# Altium integrated library AMCC PowerPC 405.IntLib: 46 symbols (part 11 of 12)
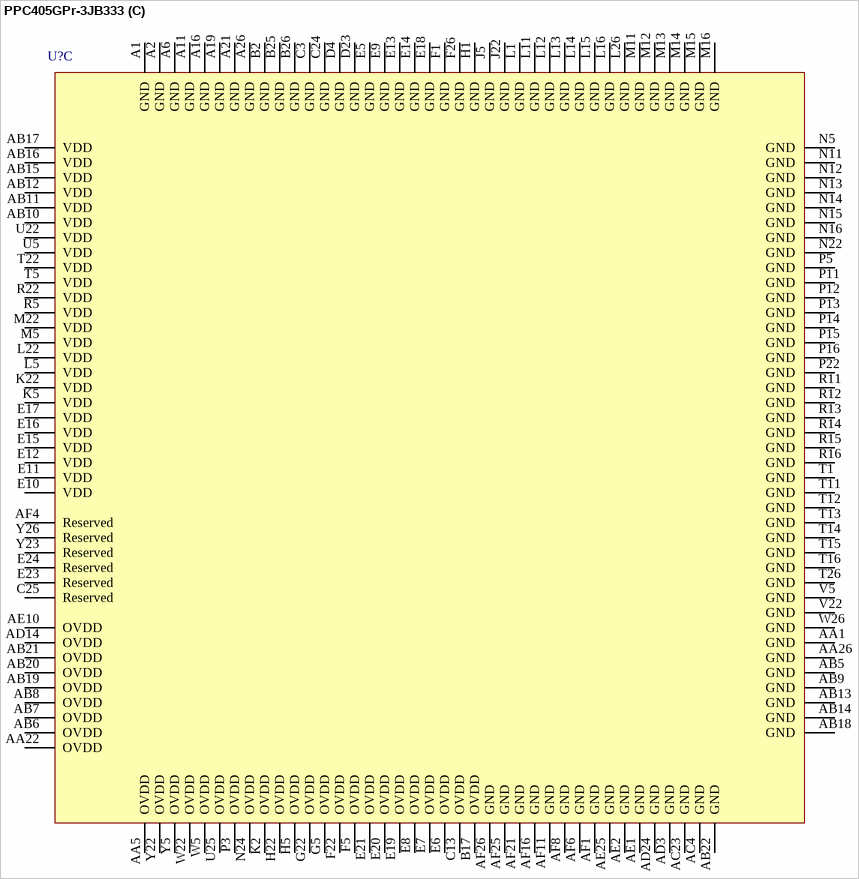
[diagram p128: symbol PPC405GPr-3JB333]

## PPC405GPr-3JB333
designator U?
PowerPC 405GPr Embedded Processor, 333MHz, 35mm, 456 Ball E-PBGA, Pb-Free; Published: 6-Oct-2005; LatestRevisionDate: 13-Apr-2006; LatestRevisionNote: IPC-7351 Footprint Added.; DatasheetVersion: rev 2.02, Aug-2005; PackageVersion: May-2006; PackageReference: E-PBGA456_75; Publisher: Altium Limited; PackageDescription: 456-Ball Enhanced Plastic Ball Grid Array (E-PBGA); ComponentLink1Description: Manufacturer Link; ComponentLink1URL: http://www.amcc.com/; ComponentLink2Description: Datasheet; ComponentLink2URL: https://www.amcc.com/MyAMCC/retrieveDocument/PowerPC/405GP_GPR/PPC405GPR_DS2005_v2_02.pdf
footprint E-PBGA456_75 (BGA, 456-Leads, Body 35x35mm, Pitch 1.27mm)
3D model PPC405GPr-E-PBGA456_75 (456-Ball Enhanced Plastic Ball Grid Array (E-PBGA))
part A pins: A3 PerAddr1 (io), A4 ~{PerCS}3[GPIO12] (io), A5 PerAddr8 (io), A7 DMAReq3 (in), A8 PerAddr15 (io), A9 ~{PerCS}6[GPIO15] (io), A10 PerAddr19 (io), A12 PerAddr25 (io), A13 PerAddr26 (io), A14 PerAddr28 (io), A15 PerAddr29 (io), A25 SysClk (in), AA3 DQM3 (out), AA24 IRQ6[GPIO23] (io), AB23 ~{CA}S (out), AB24 BA0 (out), AB25 ClkEn0 (out), AB26 ~{Hal}t (in), AC6 DQM2 (out), AC10 DQM1 (out), AC12 DQM0 (out), AC14 ~{BankSel}3 (out), AC15 DQMCB (out), AC16 ~{WE} (out), AC22 TMS (in), AC24 BA1 (out), AC25 ClkEn1 (out), AD6 IICSCL (io), AD12 ECC7 (io), AD13 ECC3 (io), AD17 ~{BankSel}0 (out), AD22 TCK (in), AD23 TDO (out), AD25 SysErr (out), AE7 IICSDA (io), AE13 ECC6 (io), AE14 ECC0 (io), AE15 ~{BankSel}2 (out), AE24 TDI (in), AE26 ~{TRS}T (in), AF12 ECC5 (io), AF13 ECC4 (io), AF14 ECC2 (io), AF15 ECC1 (io), AF17 ~{BankSel}1 (out), AF24 ~{RA}S (out), B1 PerErr (in), B3 ~{PerCS}0 (out), B4 PerAddr2 (io), B5 PerAddr3 (io), B6 PerAddr5 (io), B7 PerAddr9 (io), B8 PerAddr12 (io), B9 ~{PerCS}4[GPIO13] (io), B10 ~{PerCS}5[GPIO14] (io), B11 ~{PerCS}7[GPIO16] (io), B12 PerAddr21 (io), B13 PerAddr24 (io), B14 DMAAck2 (out), B15 DMAAck1 (out), C1 PerR/~{W} (io), C2 ~{PerO}E (out), C4 ~{PerCS}1[GPIO10] (io), C5 ~{PerCS}2[GPIO11] (io), C6 PerAddr6 (io), C7 PerAddr10 (io), C8 PerAddr13 (io), C9 PerAddr16 (io), C10 PerAddr18 (io), C11 DMAReq2 (in), C12 DMAAck3 (out), C14 PerAddr27 (io), C15 PerAddr30 (io), C16 DMAReq0 (in), D1 ~{PerWBE}3 (io), D2 ~{PerWBE}0 (io), D3 PerPar0 (io), D5 PerAddr0 (io), D6 PerAddr4 (io), D7 PerAddr7 (io), D8 PerAddr11 (io), D9 PerAddr14 (io), D10 PerAddr17 (io), D11 PerAddr20 (io), D12 PerAddr23 (io), D13 PerAddr22 (io), D14 DMAReq1 (in), D15 PerAddr31 (io), D16 DMAAck0 (out), D22 ~{SysRese}t (io), D24 TmrClk (in), D25 AVDD (in), D26 ~{TestE}n (in), E1 PerPar3 (io), E2 ~{PerWBE}1 (io), E3 PerReady (in), E4 PerClk (out), E22 AGND (in), F2 ~{PerBLas}t (io), F3 EOT0/TC0 (io), F4 ~{PerWBE}2 (io), G1 PerData29 (io), G2 EOT1/TC1 (io), G3 PerPar2 (io), G4 PerPar1 (io), H2 PerData30 (io), H3 PerData28 (io), H4 PerData31 (io), J1 PerData23 (io), J2 PerData26 (io), J3 PerData25 (io), J4 PerData27 (io), K1 PerData20 (io), K3 PerData22 (io), K4 PerData24 (io), L2 PerData21 (io), L3 PerData18 (io), L4 PerData19 (io), M1 PerData12 (io), M2 PerData17 (io), M3 PerData14 (io), M4 PerData15 (io), N1 PerData11 (io), N2 PerData13 (io), N3 PerData10 (io), N4 PerData16 (io), P1 PerData9 (io), P2 PerData7 (io), P4 PerData5 (io), R1 PerData8 (io), R2 PerData4 (io), R3 BusReq (out), R4 PerData6 (io), T2 HoldPri (in), T3 ~{ExtRese}t (out), T4 PerData3 (io), U1 PerData2 (io), U2 HoldAck (out), U3 PerData1 (io), U4 PerData0 (io), V1 HoldReq (in), V2 EOT2/TC2 (io), V23 IRQ1[GPIO18] (io), V25 IRQ0[GPIO17] (io), W24 IRQ2[GPIO19] (io), W25 IRQ3[GPIO20] (io), Y1 EOT3/TC3 (io), Y3 ~{ExtAc}k (out), Y4 ~{ExtRe}q (in), Y24 IRQ4[GPIO21] (io), Y25 IRQ5[GPIO22] (io)
part B pins: A17 PCIAD0 (io), A18 PCIAD3 (io), A20 PCIAD7 (io), A22 GPIO3[TS1O] (io), A23 PCIAD9 (io), A24 ~{PCIReq}3 (in), AA2 MemData23 (io), AA4 MemData22 (io), AA23 MemClkOut1 (out), AA25 PHYCol (in), AB1 MemData24 (io), AB2 MemData21 (io), AB3 GPIO9[TrcClk] (io), AB4 ~{UART0}_~{CT}S (in), AC1 UART1_Rx (in), AC2 UART1_Tx (out), AC3 ~{UART1}_~{CT}S/~{UART1}_~{DS}R (in), AC5 MemData19 (io), AC7 GPIO8[TS6] (io), AC8 MemData12 (io), AC9 GPIO5[TS3] (io), AC11 MemData3 (io), AC13 MemData0 (io), AC17 MemAddr12 (out), AC18 MemAddr9 (out), AC19 MemAddr6 (out), AC20 PHYRxD2 (in), AC21 MemAddr1 (out), AC26 MemClkOut0 (out), AD1 MemData20 (io), AD2 ~{UART1}_~{DT}R/~{UART1}_~{RT}S (out), AD4 MemData18 (io), AD5 MemData17 (io), AD7 MemData13 (io), AD8 MemData10 (io), AD9 MemData8 (io), AD10 MemData6 (io), AD11 MemData2 (io), AD15 ~{UART0}_~{R}I (in), AD16 ~{UART0}_~{RT}S (out), AD18 MemAddr11 (out), AD19 MemAddr8 (out), AD20 PHYRxD3 (in), AD21 MemAddr3 (out), AD26 EMCMDIO[PHYMDIO] (io), AE3 ~{UART0}_~{DS}R (in), AE4 MemData16 (io), AE5 MemData15 (io), AE6 MemData14 (io), AE8 GPIO6[TS4] (io), AE9 MemData9 (io), AE11 MemData5 (io), AE12 MemData1 (io), AE16 UART0_Rx (in), AE17 UARTSerClk (in), AE18 ~{UART0}_~{DC}D (in), AE19 MemAddr7 (out), AE20 MemAddr5 (out), AE21 MemAddr2 (out), AE22 MemAddr0 (out), AE23 PHYRxD0 (in), AF2 ~{UART0}_~{DT}R (out), AF3 UART0_Tx (out), AF5 GPIO7[TS5] (io), AF7 MemData11 (io), AF9 MemData7 (io), AF10 MemData4 (io), AF18 GPIO4[TS2O] (io), AF19 MemAddr10 (out), AF20 PHYRxClk (in), AF22 MemAddr4 (out), AF23 PHYRxD1 (in), B16 PCIAD1 (io), B18 PCIAD6 (io), B19 ~{PCIReq}2 (in), B20 PCIClk (in), B21 PCIAD8 (io), B22 PCIAD11 (io), B23 PCIAD12 (io), B24 ~{PCIRese}t (out), C17 PCIAD2 (io), C18 PCIAD5 (io), C19 ~{PCIReq0}[~{Gn}t] (in), C20 GPIO2[TS2E] (io), C21 ~{PCIReq}1 (in), C22 PCIAD13 (io), C23 ~{PCIIN}T[~{PerWE}] (out), C26 PCIAD14 (io), D17 PCIAD4 (io), D18 GPIO1[TS1E] (io), D19 PCIC0[~{BE0}] (io), D20 GPIO24 (io), D21 PCIAD10 (io), E25 PHYTxClk (in), E26 PCIParity (io), F23 ~{PCIGnt}2 (out), F24 PCIC1[~{BE1}] (io), F25 PCIAD15 (io), G23 ~{PCIReq}4 (in), G24 ~{PCISEr}r (io), G25 ~{PCIPEr}r (io), G26 ~{PCITRD}Y (io), H23 ~{PCISto}p (io), H24 EMCMDClk (out), H25 ~{PCIDevSe}l (io), H26 ~{PCIGnt}3 (out), J23 ~{PCIIRD}Y (io), J24 ~{PCIFram}e (io), J25 ~{PCIReq}5 (in), J26 EMCTxD0 (out), K23 EMCTxEn (out), K24 PCIC2[~{BE2}] (io), K25 EMCTxErr (out), K26 PCIAD16 (io), L23 PCIAD17 (io), L24 EMCTxD2 (out), L25 EMCTxD1 (out), M23 PCIAD19 (io), M24 ~{PCIGnt}5 (out), M25 PCIAD18 (io), M26 PCIAD21 (io), N23 ~{PCIGnt}4 (out), N25 PCIAD20 (io), N26 PCIAD22 (io), P23 PCIAD26 (io), P24 PCIAD23 (io), P25 EMCTxD3 (out), P26 PCIIDSel (in), R23 PCIAD25 (io), R24 PCIAD24 (io), R25 PCIAD27 (io), R26 PCIC3[~{BE3}] (io), T23 ~{PCIGnt}1 (out), T24 PCIAD28 (io), T25 PCIAD30 (io), U23 ~{PCIGnt}0[~{Re}q] (out), U24 PHYRxErr (in), U26 PCIAD29 (io), V3 MemData31 (io), V4 MemData29 (io), V24 PHYRxDV (in), V26 PCIAD31 (io), W1 MemData30 (io), W2 MemData27 (io), W3 MemData28 (io), W4 MemData26 (io), W23 PHYCrS (in), Y2 MemData25 (io)
part C pins: A1 GND (power), A2 GND (power), A6 GND (power), A11 GND (power), A16 GND (power), A19 GND (power), A21 GND (power), A26 GND (power), AA1 GND (power), AA5 OVDD (power), AA22 OVDD (power), AA26 GND (power), AB5 GND (power), AB6 OVDD (power), AB7 OVDD (power), AB8 OVDD (power), AB9 GND (power), AB10 VDD (power), AB11 VDD (power), AB12 VDD (power), AB13 GND (power), AB14 GND (power), AB15 VDD (power), AB16 VDD (power), AB17 VDD (power), AB18 GND (power), AB19 OVDD (power), AB20 OVDD (power), AB21 OVDD (power), AB22 GND (power), AC4 GND (power), AC23 GND (power), AD3 GND (power), AD14 OVDD (power), AD24 GND (power), AE1 GND (power), AE2 GND (power), AE10 OVDD (power), AE25 GND (power), AF1 GND (power), AF4 Reserved, AF6 GND (power), AF8 GND (power), AF11 GND (power), AF16 GND (power), AF21 GND (power), AF25 GND (power), AF26 GND (power), B2 GND (power), B17 OVDD (power), B25 GND (power), B26 GND (power), C3 GND (power), C13 OVDD (power), C24 GND (power), C25 Reserved, D4 GND (power), D23 GND (power), E5 GND (power), E6 OVDD (power), E7 OVDD (power), E8 OVDD (power), E9 GND (power), E10 VDD (power), E11 VDD (power), E12 VDD (power), E13 GND (power), E14 GND (power), E15 VDD (power), E16 VDD (power), E17 VDD (power), E18 GND (power), E19 OVDD (power), E20 OVDD (power), E21 OVDD (power), E23 Reserved, E24 Reserved, F1 GND (power), F5 OVDD (power), F22 OVDD (power), F26 GND (power), G5 OVDD (power), G22 OVDD (power), H1 GND (power), H5 OVDD (power), H22 OVDD (power), J5 GND (power), J22 GND (power), K2 OVDD (power), K5 VDD (power), K22 VDD (power), L1 GND (power), L5 VDD (power), L11 GND (power) "Thermal Balls", L12 GND (power) "Thermal Balls", L13 GND (power) "Thermal Balls", L14 GND (power) "Thermal Balls", L15 GND (power) "Thermal Balls", L16 GND (power) "Thermal Balls", L22 VDD (power), L26 GND (power), M5 VDD (power), M11 GND (power) "Thermal Balls", M12 GND (power) "Thermal Balls", M13 GND (power) "Thermal Balls", M14 GND (power) "Thermal Balls", M15 GND (power) "Thermal Balls", M16 GND (power) "Thermal Balls", M22 VDD (power), N5 GND (power), N11 GND (power) "Thermal Balls", N12 GND (power) "Thermal Balls", N13 GND (power) "Thermal Balls", N14 GND (power) "Thermal Balls", N15 GND (power) "Thermal Balls", N16 GND (power) "Thermal Balls", N22 GND (power), N24 OVDD (power), P3 OVDD (power), P5 GND (power), P11 GND (power) "Thermal Balls", P12 GND (power) "Thermal Balls", P13 GND (power) "Thermal Balls", P14 GND (power) "Thermal Balls", P15 GND (power) "Thermal Balls", P16 GND (power) "Thermal Balls", P22 GND (power), R5 VDD (power), R11 GND (power) "Thermal Balls", R12 GND (power) "Thermal Balls", R13 GND (power) "Thermal Balls", R14 GND (power) "Thermal Balls", R15 GND (power) "Thermal Balls", R16 GND (power) "Thermal Balls", R22 VDD (power), T1 GND (power), T5 VDD (power), T11 GND (power) "Thermal Balls", T12 GND (power) "Thermal Balls", T13 GND (power) "Thermal Balls", T14 GND (power) "Thermal Balls", T15 GND (power) "Thermal Balls", T16 GND (power) "Thermal Balls", T22 VDD (power), T26 GND (power), U5 VDD (power), U22 VDD (power), U25 OVDD (power), V5 GND (power), V22 GND (power), W5 OVDD (power), W22 OVDD (power), W26 GND (power), Y5 OVDD (power), Y22 OVDD (power), Y23 Reserved, Y26 Reserved

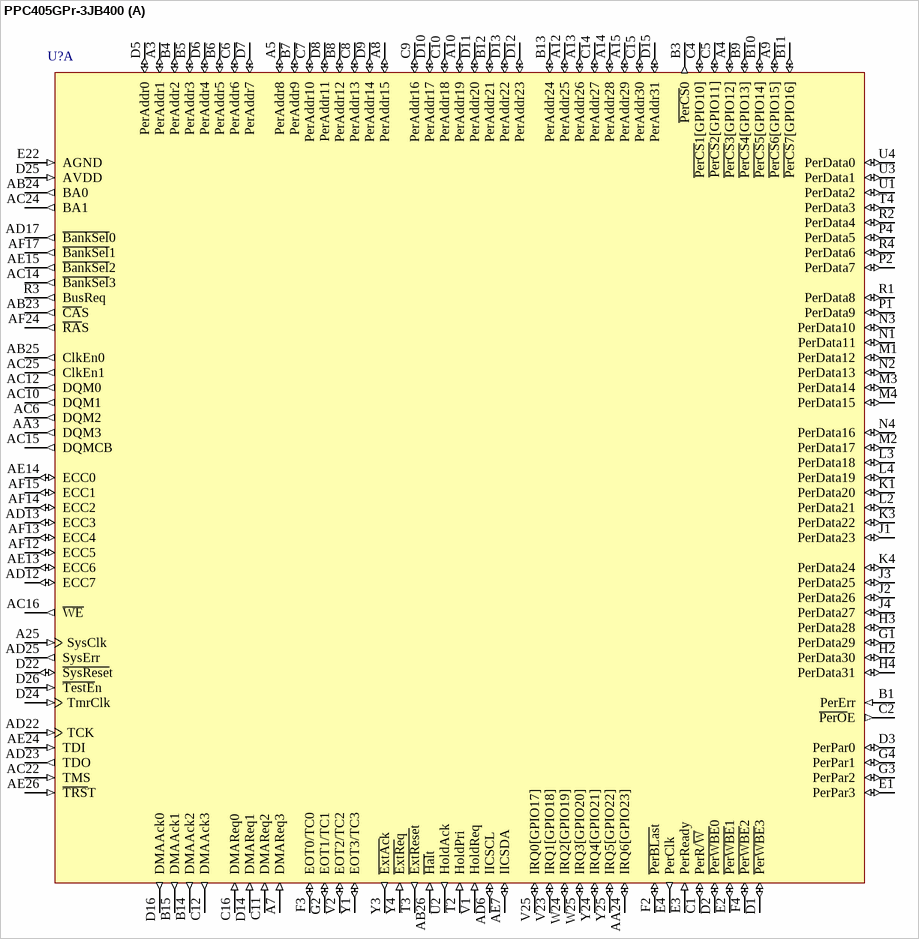
[diagram p107: symbol PPC405GPr-3JB400]

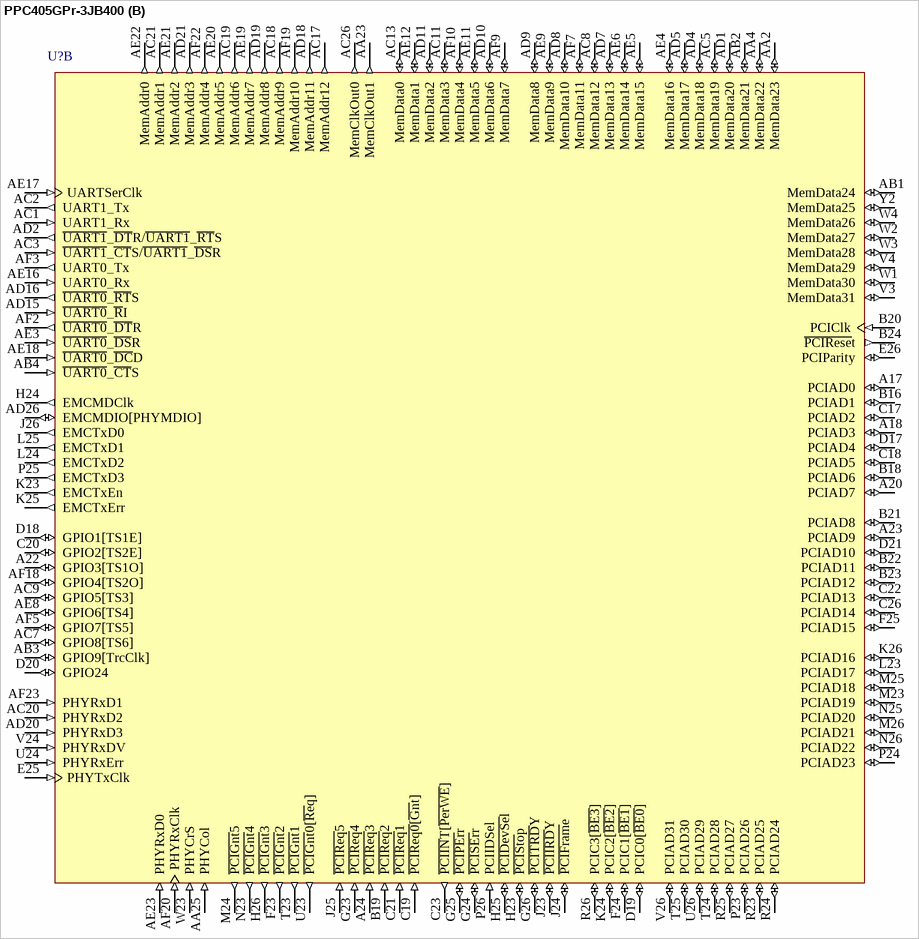
[diagram p108: symbol PPC405GPr-3JB400]

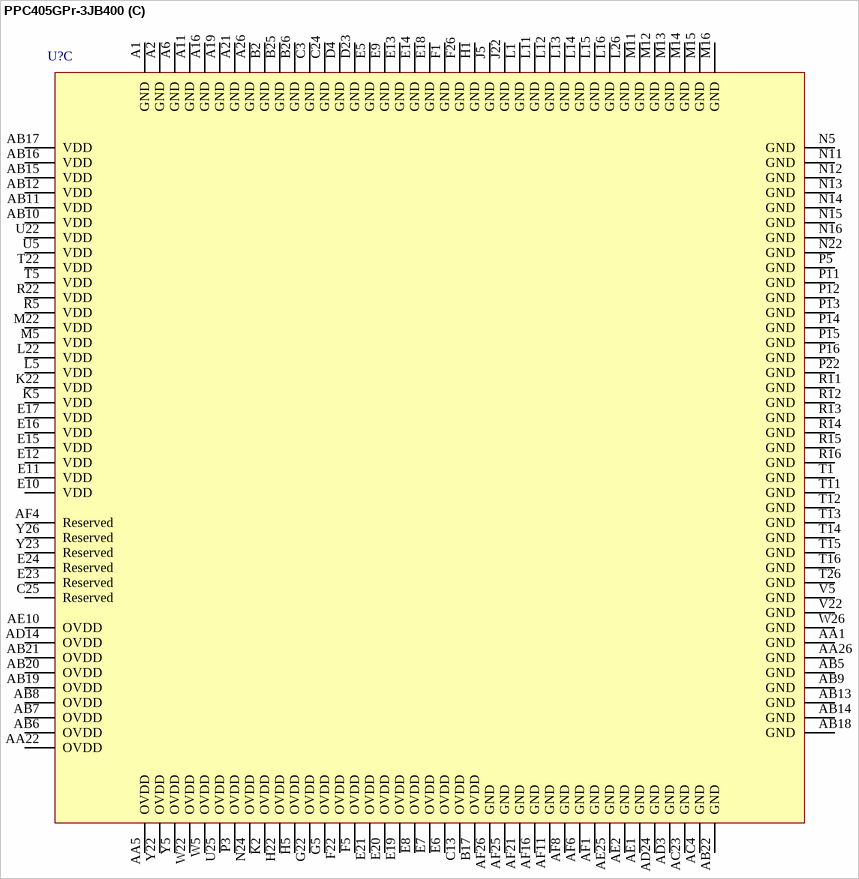
[diagram p109: symbol PPC405GPr-3JB400]

## PPC405GPr-3JB400
designator U?
PowerPC 405GPr Embedded Processor, 400MHz, 35mm, 456 Ball E-PBGA, Pb-Free; Published: 6-Oct-2005; LatestRevisionDate: 13-Apr-2006; LatestRevisionNote: IPC-7351 Footprint Added.; DatasheetVersion: rev 2.02, Aug-2005; PackageVersion: May-2006; PackageReference: E-PBGA456_75; Publisher: Altium Limited; PackageDescription: 456-Ball Enhanced Plastic Ball Grid Array (E-PBGA); ComponentLink1Description: Manufacturer Link; ComponentLink1URL: http://www.amcc.com/; ComponentLink2Description: Datasheet; ComponentLink2URL: https://www.amcc.com/MyAMCC/retrieveDocument/PowerPC/405GP_GPR/PPC405GPR_DS2005_v2_02.pdf
footprint E-PBGA456_75 (BGA, 456-Leads, Body 35x35mm, Pitch 1.27mm)
3D model PPC405GPr-E-PBGA456_75 (456-Ball Enhanced Plastic Ball Grid Array (E-PBGA))
part A pins: A3 PerAddr1 (io), A4 ~{PerCS}3[GPIO12] (io), A5 PerAddr8 (io), A7 DMAReq3 (in), A8 PerAddr15 (io), A9 ~{PerCS}6[GPIO15] (io), A10 PerAddr19 (io), A12 PerAddr25 (io), A13 PerAddr26 (io), A14 PerAddr28 (io), A15 PerAddr29 (io), A25 SysClk (in), AA3 DQM3 (out), AA24 IRQ6[GPIO23] (io), AB23 ~{CA}S (out), AB24 BA0 (out), AB25 ClkEn0 (out), AB26 ~{Hal}t (in), AC6 DQM2 (out), AC10 DQM1 (out), AC12 DQM0 (out), AC14 ~{BankSel}3 (out), AC15 DQMCB (out), AC16 ~{WE} (out), AC22 TMS (in), AC24 BA1 (out), AC25 ClkEn1 (out), AD6 IICSCL (io), AD12 ECC7 (io), AD13 ECC3 (io), AD17 ~{BankSel}0 (out), AD22 TCK (in), AD23 TDO (out), AD25 SysErr (out), AE7 IICSDA (io), AE13 ECC6 (io), AE14 ECC0 (io), AE15 ~{BankSel}2 (out), AE24 TDI (in), AE26 ~{TRS}T (in), AF12 ECC5 (io), AF13 ECC4 (io), AF14 ECC2 (io), AF15 ECC1 (io), AF17 ~{BankSel}1 (out), AF24 ~{RA}S (out), B1 PerErr (in), B3 ~{PerCS}0 (out), B4 PerAddr2 (io), B5 PerAddr3 (io), B6 PerAddr5 (io), B7 PerAddr9 (io), B8 PerAddr12 (io), B9 ~{PerCS}4[GPIO13] (io), B10 ~{PerCS}5[GPIO14] (io), B11 ~{PerCS}7[GPIO16] (io), B12 PerAddr21 (io), B13 PerAddr24 (io), B14 DMAAck2 (out), B15 DMAAck1 (out), C1 PerR/~{W} (io), C2 ~{PerO}E (out), C4 ~{PerCS}1[GPIO10] (io), C5 ~{PerCS}2[GPIO11] (io), C6 PerAddr6 (io), C7 PerAddr10 (io), C8 PerAddr13 (io), C9 PerAddr16 (io), C10 PerAddr18 (io), C11 DMAReq2 (in), C12 DMAAck3 (out), C14 PerAddr27 (io), C15 PerAddr30 (io), C16 DMAReq0 (in), D1 ~{PerWBE}3 (io), D2 ~{PerWBE}0 (io), D3 PerPar0 (io), D5 PerAddr0 (io), D6 PerAddr4 (io), D7 PerAddr7 (io), D8 PerAddr11 (io), D9 PerAddr14 (io), D10 PerAddr17 (io), D11 PerAddr20 (io), D12 PerAddr23 (io), D13 PerAddr22 (io), D14 DMAReq1 (in), D15 PerAddr31 (io), D16 DMAAck0 (out), D22 ~{SysRese}t (io), D24 TmrClk (in), D25 AVDD (in), D26 ~{TestE}n (in), E1 PerPar3 (io), E2 ~{PerWBE}1 (io), E3 PerReady (in), E4 PerClk (out), E22 AGND (in), F2 ~{PerBLas}t (io), F3 EOT0/TC0 (io), F4 ~{PerWBE}2 (io), G1 PerData29 (io), G2 EOT1/TC1 (io), G3 PerPar2 (io), G4 PerPar1 (io), H2 PerData30 (io), H3 PerData28 (io), H4 PerData31 (io), J1 PerData23 (io), J2 PerData26 (io), J3 PerData25 (io), J4 PerData27 (io), K1 PerData20 (io), K3 PerData22 (io), K4 PerData24 (io), L2 PerData21 (io), L3 PerData18 (io), L4 PerData19 (io), M1 PerData12 (io), M2 PerData17 (io), M3 PerData14 (io), M4 PerData15 (io), N1 PerData11 (io), N2 PerData13 (io), N3 PerData10 (io), N4 PerData16 (io), P1 PerData9 (io), P2 PerData7 (io), P4 PerData5 (io), R1 PerData8 (io), R2 PerData4 (io), R3 BusReq (out), R4 PerData6 (io), T2 HoldPri (in), T3 ~{ExtRese}t (out), T4 PerData3 (io), U1 PerData2 (io), U2 HoldAck (out), U3 PerData1 (io), U4 PerData0 (io), V1 HoldReq (in), V2 EOT2/TC2 (io), V23 IRQ1[GPIO18] (io), V25 IRQ0[GPIO17] (io), W24 IRQ2[GPIO19] (io), W25 IRQ3[GPIO20] (io), Y1 EOT3/TC3 (io), Y3 ~{ExtAc}k (out), Y4 ~{ExtRe}q (in), Y24 IRQ4[GPIO21] (io), Y25 IRQ5[GPIO22] (io)
part B pins: A17 PCIAD0 (io), A18 PCIAD3 (io), A20 PCIAD7 (io), A22 GPIO3[TS1O] (io), A23 PCIAD9 (io), A24 ~{PCIReq}3 (in), AA2 MemData23 (io), AA4 MemData22 (io), AA23 MemClkOut1 (out), AA25 PHYCol (in), AB1 MemData24 (io), AB2 MemData21 (io), AB3 GPIO9[TrcClk] (io), AB4 ~{UART0}_~{CT}S (in), AC1 UART1_Rx (in), AC2 UART1_Tx (out), AC3 ~{UART1}_~{CT}S/~{UART1}_~{DS}R (in), AC5 MemData19 (io), AC7 GPIO8[TS6] (io), AC8 MemData12 (io), AC9 GPIO5[TS3] (io), AC11 MemData3 (io), AC13 MemData0 (io), AC17 MemAddr12 (out), AC18 MemAddr9 (out), AC19 MemAddr6 (out), AC20 PHYRxD2 (in), AC21 MemAddr1 (out), AC26 MemClkOut0 (out), AD1 MemData20 (io), AD2 ~{UART1}_~{DT}R/~{UART1}_~{RT}S (out), AD4 MemData18 (io), AD5 MemData17 (io), AD7 MemData13 (io), AD8 MemData10 (io), AD9 MemData8 (io), AD10 MemData6 (io), AD11 MemData2 (io), AD15 ~{UART0}_~{R}I (in), AD16 ~{UART0}_~{RT}S (out), AD18 MemAddr11 (out), AD19 MemAddr8 (out), AD20 PHYRxD3 (in), AD21 MemAddr3 (out), AD26 EMCMDIO[PHYMDIO] (io), AE3 ~{UART0}_~{DS}R (in), AE4 MemData16 (io), AE5 MemData15 (io), AE6 MemData14 (io), AE8 GPIO6[TS4] (io), AE9 MemData9 (io), AE11 MemData5 (io), AE12 MemData1 (io), AE16 UART0_Rx (in), AE17 UARTSerClk (in), AE18 ~{UART0}_~{DC}D (in), AE19 MemAddr7 (out), AE20 MemAddr5 (out), AE21 MemAddr2 (out), AE22 MemAddr0 (out), AE23 PHYRxD0 (in), AF2 ~{UART0}_~{DT}R (out), AF3 UART0_Tx (out), AF5 GPIO7[TS5] (io), AF7 MemData11 (io), AF9 MemData7 (io), AF10 MemData4 (io), AF18 GPIO4[TS2O] (io), AF19 MemAddr10 (out), AF20 PHYRxClk (in), AF22 MemAddr4 (out), AF23 PHYRxD1 (in), B16 PCIAD1 (io), B18 PCIAD6 (io), B19 ~{PCIReq}2 (in), B20 PCIClk (in), B21 PCIAD8 (io), B22 PCIAD11 (io), B23 PCIAD12 (io), B24 ~{PCIRese}t (out), C17 PCIAD2 (io), C18 PCIAD5 (io), C19 ~{PCIReq0}[~{Gn}t] (in), C20 GPIO2[TS2E] (io), C21 ~{PCIReq}1 (in), C22 PCIAD13 (io), C23 ~{PCIIN}T[~{PerWE}] (out), C26 PCIAD14 (io), D17 PCIAD4 (io), D18 GPIO1[TS1E] (io), D19 PCIC0[~{BE0}] (io), D20 GPIO24 (io), D21 PCIAD10 (io), E25 PHYTxClk (in), E26 PCIParity (io), F23 ~{PCIGnt}2 (out), F24 PCIC1[~{BE1}] (io), F25 PCIAD15 (io), G23 ~{PCIReq}4 (in), G24 ~{PCISEr}r (io), G25 ~{PCIPEr}r (io), G26 ~{PCITRD}Y (io), H23 ~{PCISto}p (io), H24 EMCMDClk (out), H25 ~{PCIDevSe}l (io), H26 ~{PCIGnt}3 (out), J23 ~{PCIIRD}Y (io), J24 ~{PCIFram}e (io), J25 ~{PCIReq}5 (in), J26 EMCTxD0 (out), K23 EMCTxEn (out), K24 PCIC2[~{BE2}] (io), K25 EMCTxErr (out), K26 PCIAD16 (io), L23 PCIAD17 (io), L24 EMCTxD2 (out), L25 EMCTxD1 (out), M23 PCIAD19 (io), M24 ~{PCIGnt}5 (out), M25 PCIAD18 (io), M26 PCIAD21 (io), N23 ~{PCIGnt}4 (out), N25 PCIAD20 (io), N26 PCIAD22 (io), P23 PCIAD26 (io), P24 PCIAD23 (io), P25 EMCTxD3 (out), P26 PCIIDSel (in), R23 PCIAD25 (io), R24 PCIAD24 (io), R25 PCIAD27 (io), R26 PCIC3[~{BE3}] (io), T23 ~{PCIGnt}1 (out), T24 PCIAD28 (io), T25 PCIAD30 (io), U23 ~{PCIGnt}0[~{Re}q] (out), U24 PHYRxErr (in), U26 PCIAD29 (io), V3 MemData31 (io), V4 MemData29 (io), V24 PHYRxDV (in), V26 PCIAD31 (io), W1 MemData30 (io), W2 MemData27 (io), W3 MemData28 (io), W4 MemData26 (io), W23 PHYCrS (in), Y2 MemData25 (io)
part C pins: A1 GND (power), A2 GND (power), A6 GND (power), A11 GND (power), A16 GND (power), A19 GND (power), A21 GND (power), A26 GND (power), AA1 GND (power), AA5 OVDD (power), AA22 OVDD (power), AA26 GND (power), AB5 GND (power), AB6 OVDD (power), AB7 OVDD (power), AB8 OVDD (power), AB9 GND (power), AB10 VDD (power), AB11 VDD (power), AB12 VDD (power), AB13 GND (power), AB14 GND (power), AB15 VDD (power), AB16 VDD (power), AB17 VDD (power), AB18 GND (power), AB19 OVDD (power), AB20 OVDD (power), AB21 OVDD (power), AB22 GND (power), AC4 GND (power), AC23 GND (power), AD3 GND (power), AD14 OVDD (power), AD24 GND (power), AE1 GND (power), AE2 GND (power), AE10 OVDD (power), AE25 GND (power), AF1 GND (power), AF4 Reserved, AF6 GND (power), AF8 GND (power), AF11 GND (power), AF16 GND (power), AF21 GND (power), AF25 GND (power), AF26 GND (power), B2 GND (power), B17 OVDD (power), B25 GND (power), B26 GND (power), C3 GND (power), C13 OVDD (power), C24 GND (power), C25 Reserved, D4 GND (power), D23 GND (power), E5 GND (power), E6 OVDD (power), E7 OVDD (power), E8 OVDD (power), E9 GND (power), E10 VDD (power), E11 VDD (power), E12 VDD (power), E13 GND (power), E14 GND (power), E15 VDD (power), E16 VDD (power), E17 VDD (power), E18 GND (power), E19 OVDD (power), E20 OVDD (power), E21 OVDD (power), E23 Reserved, E24 Reserved, F1 GND (power), F5 OVDD (power), F22 OVDD (power), F26 GND (power), G5 OVDD (power), G22 OVDD (power), H1 GND (power), H5 OVDD (power), H22 OVDD (power), J5 GND (power), J22 GND (power), K2 OVDD (power), K5 VDD (power), K22 VDD (power), L1 GND (power), L5 VDD (power), L11 GND (power) "Thermal Balls", L12 GND (power) "Thermal Balls", L13 GND (power) "Thermal Balls", L14 GND (power) "Thermal Balls", L15 GND (power) "Thermal Balls", L16 GND (power) "Thermal Balls", L22 VDD (power), L26 GND (power), M5 VDD (power), M11 GND (power) "Thermal Balls", M12 GND (power) "Thermal Balls", M13 GND (power) "Thermal Balls", M14 GND (power) "Thermal Balls", M15 GND (power) "Thermal Balls", M16 GND (power) "Thermal Balls", M22 VDD (power), N5 GND (power), N11 GND (power) "Thermal Balls", N12 GND (power) "Thermal Balls", N13 GND (power) "Thermal Balls", N14 GND (power) "Thermal Balls", N15 GND (power) "Thermal Balls", N16 GND (power) "Thermal Balls", N22 GND (power), N24 OVDD (power), P3 OVDD (power), P5 GND (power), P11 GND (power) "Thermal Balls", P12 GND (power) "Thermal Balls", P13 GND (power) "Thermal Balls", P14 GND (power) "Thermal Balls", P15 GND (power) "Thermal Balls", P16 GND (power) "Thermal Balls", P22 GND (power), R5 VDD (power), R11 GND (power) "Thermal Balls", R12 GND (power) "Thermal Balls", R13 GND (power) "Thermal Balls", R14 GND (power) "Thermal Balls", R15 GND (power) "Thermal Balls", R16 GND (power) "Thermal Balls", R22 VDD (power), T1 GND (power), T5 VDD (power), T11 GND (power) "Thermal Balls", T12 GND (power) "Thermal Balls", T13 GND (power) "Thermal Balls", T14 GND (power) "Thermal Balls", T15 GND (power) "Thermal Balls", T16 GND (power) "Thermal Balls", T22 VDD (power), T26 GND (power), U5 VDD (power), U22 VDD (power), U25 OVDD (power), V5 GND (power), V22 GND (power), W5 OVDD (power), W22 OVDD (power), W26 GND (power), Y5 OVDD (power), Y22 OVDD (power), Y23 Reserved, Y26 Reserved

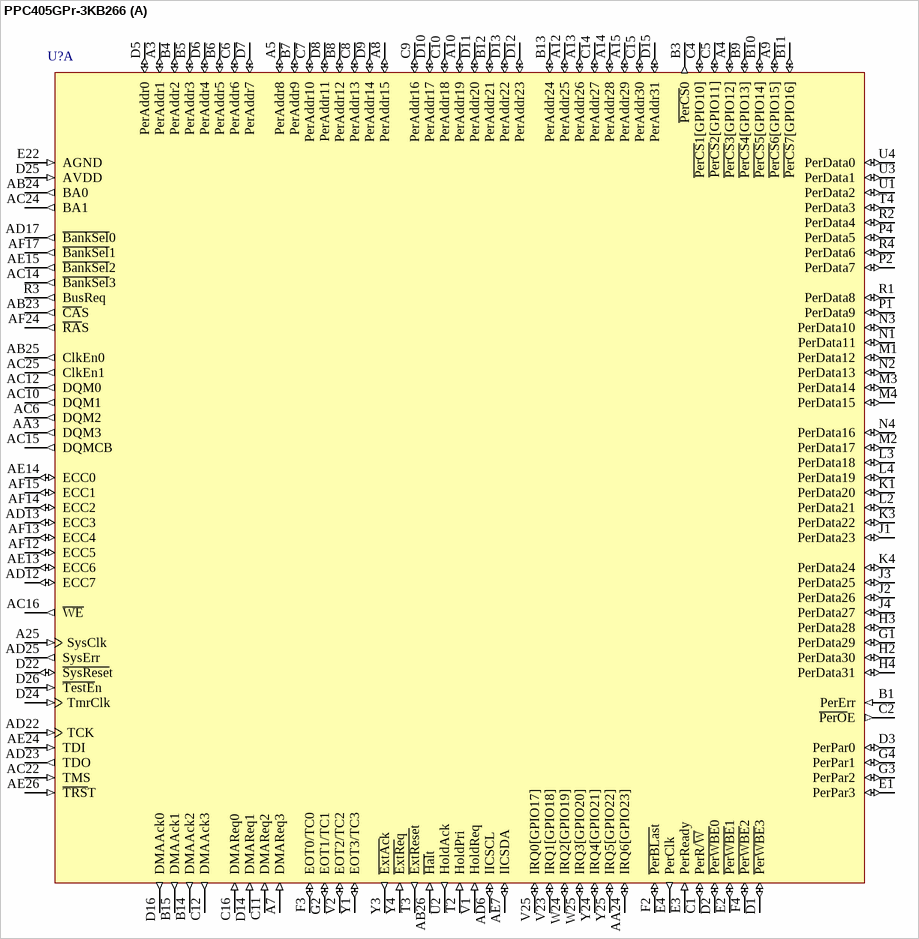
[diagram p110: symbol PPC405GPr-3KB266]

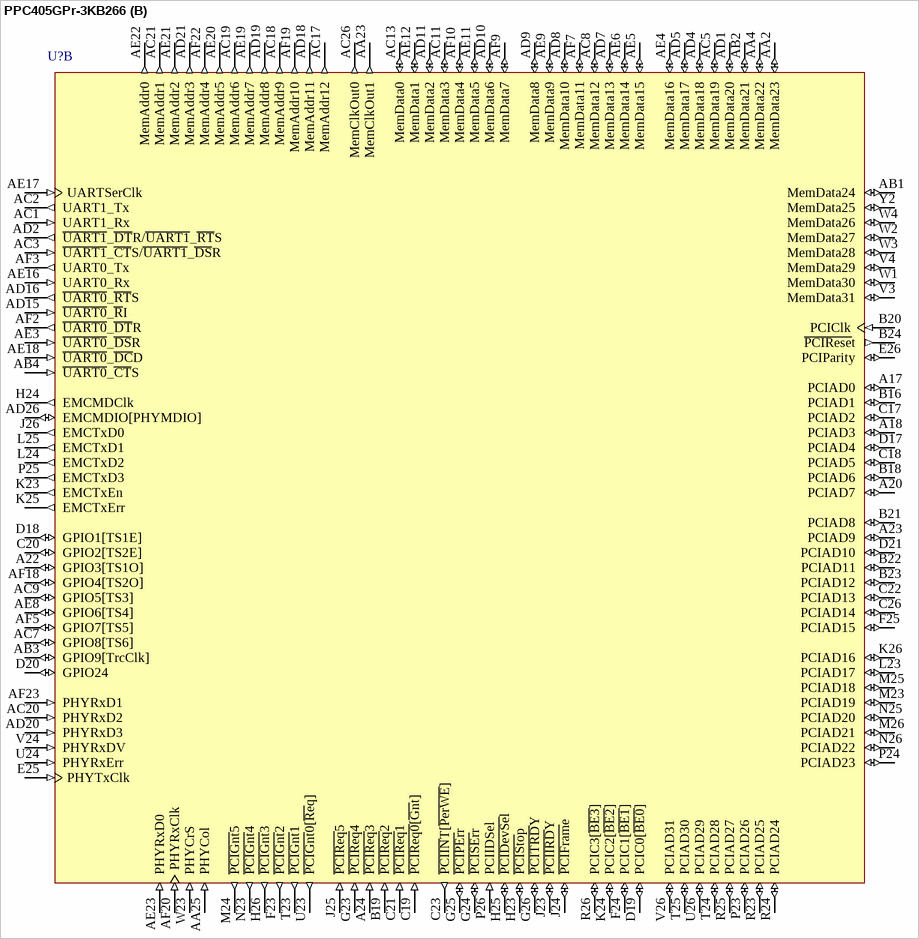
[diagram p111: symbol PPC405GPr-3KB266]

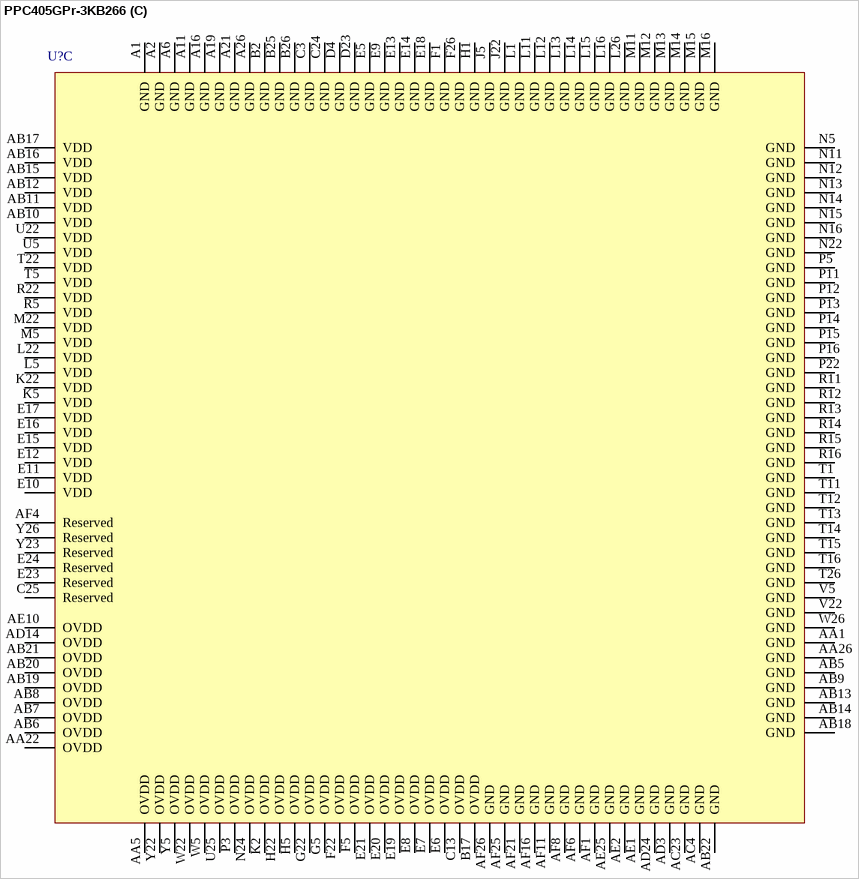
[diagram p112: symbol PPC405GPr-3KB266]

## PPC405GPr-3KB266
designator U?
PowerPC 405GPr Embedded Processor, 266MHz, 27mm, 456 Ball E-PBGA, Pb-Free; Published: 6-Oct-2005; LatestRevisionDate: 13-Apr-2006; LatestRevisionNote: IPC-7351 Footprint Added.; DatasheetVersion: rev 2.02, Aug-2005; PackageVersion: Aug-2005; PackageReference: E-PBGA456_60; Publisher: Altium Limited; PackageDescription: 456-Ball Enhanced Plastic Ball Grid Array; ComponentLink1Description: Manufacturer Link; ComponentLink1URL: http://www.amcc.com/; ComponentLink2Description: Datasheet; ComponentLink2URL: https://www.amcc.com/MyAMCC/retrieveDocument/PowerPC/405GP_GPR/PPC405GPR_DS2005_v2_02.pdf
footprint E-PBGA456_60 (BGA, 456-Leads, Body 27x27mm, Pitch 1mm)
3D model PPC405GPr-E-PBGA456 (456-Ball Enhanced Plastic Ball Grid Array)
part A pins: A3 PerAddr1 (io), A4 ~{PerCS}3[GPIO12] (io), A5 PerAddr8 (io), A7 DMAReq3 (in), A8 PerAddr15 (io), A9 ~{PerCS}6[GPIO15] (io), A10 PerAddr19 (io), A12 PerAddr25 (io), A13 PerAddr26 (io), A14 PerAddr28 (io), A15 PerAddr29 (io), A25 SysClk (in), AA3 DQM3 (out), AA24 IRQ6[GPIO23] (io), AB23 ~{CA}S (out), AB24 BA0 (out), AB25 ClkEn0 (out), AB26 ~{Hal}t (in), AC6 DQM2 (out), AC10 DQM1 (out), AC12 DQM0 (out), AC14 ~{BankSel}3 (out), AC15 DQMCB (out), AC16 ~{WE} (out), AC22 TMS (in), AC24 BA1 (out), AC25 ClkEn1 (out), AD6 IICSCL (io), AD12 ECC7 (io), AD13 ECC3 (io), AD17 ~{BankSel}0 (out), AD22 TCK (in), AD23 TDO (out), AD25 SysErr (out), AE7 IICSDA (io), AE13 ECC6 (io), AE14 ECC0 (io), AE15 ~{BankSel}2 (out), AE24 TDI (in), AE26 ~{TRS}T (in), AF12 ECC5 (io), AF13 ECC4 (io), AF14 ECC2 (io), AF15 ECC1 (io), AF17 ~{BankSel}1 (out), AF24 ~{RA}S (out), B1 PerErr (in), B3 ~{PerCS}0 (out), B4 PerAddr2 (io), B5 PerAddr3 (io), B6 PerAddr5 (io), B7 PerAddr9 (io), B8 PerAddr12 (io), B9 ~{PerCS}4[GPIO13] (io), B10 ~{PerCS}5[GPIO14] (io), B11 ~{PerCS}7[GPIO16] (io), B12 PerAddr21 (io), B13 PerAddr24 (io), B14 DMAAck2 (out), B15 DMAAck1 (out), C1 PerR/~{W} (io), C2 ~{PerO}E (out), C4 ~{PerCS}1[GPIO10] (io), C5 ~{PerCS}2[GPIO11] (io), C6 PerAddr6 (io), C7 PerAddr10 (io), C8 PerAddr13 (io), C9 PerAddr16 (io), C10 PerAddr18 (io), C11 DMAReq2 (in), C12 DMAAck3 (out), C14 PerAddr27 (io), C15 PerAddr30 (io), C16 DMAReq0 (in), D1 ~{PerWBE}3 (io), D2 ~{PerWBE}0 (io), D3 PerPar0 (io), D5 PerAddr0 (io), D6 PerAddr4 (io), D7 PerAddr7 (io), D8 PerAddr11 (io), D9 PerAddr14 (io), D10 PerAddr17 (io), D11 PerAddr20 (io), D12 PerAddr23 (io), D13 PerAddr22 (io), D14 DMAReq1 (in), D15 PerAddr31 (io), D16 DMAAck0 (out), D22 ~{SysRese}t (io), D24 TmrClk (in), D25 AVDD (in), D26 ~{TestE}n (in), E1 PerPar3 (io), E2 ~{PerWBE}1 (io), E3 PerReady (in), E4 PerClk (out), E22 AGND (in), F2 ~{PerBLas}t (io), F3 EOT0/TC0 (io), F4 ~{PerWBE}2 (io), G1 PerData29 (io), G2 EOT1/TC1 (io), G3 PerPar2 (io), G4 PerPar1 (io), H2 PerData30 (io), H3 PerData28 (io), H4 PerData31 (io), J1 PerData23 (io), J2 PerData26 (io), J3 PerData25 (io), J4 PerData27 (io), K1 PerData20 (io), K3 PerData22 (io), K4 PerData24 (io), L2 PerData21 (io), L3 PerData18 (io), L4 PerData19 (io), M1 PerData12 (io), M2 PerData17 (io), M3 PerData14 (io), M4 PerData15 (io), N1 PerData11 (io), N2 PerData13 (io), N3 PerData10 (io), N4 PerData16 (io), P1 PerData9 (io), P2 PerData7 (io), P4 PerData5 (io), R1 PerData8 (io), R2 PerData4 (io), R3 BusReq (out), R4 PerData6 (io), T2 HoldPri (in), T3 ~{ExtRese}t (out), T4 PerData3 (io), U1 PerData2 (io), U2 HoldAck (out), U3 PerData1 (io), U4 PerData0 (io), V1 HoldReq (in), V2 EOT2/TC2 (io), V23 IRQ1[GPIO18] (io), V25 IRQ0[GPIO17] (io), W24 IRQ2[GPIO19] (io), W25 IRQ3[GPIO20] (io), Y1 EOT3/TC3 (io), Y3 ~{ExtAc}k (out), Y4 ~{ExtRe}q (in), Y24 IRQ4[GPIO21] (io), Y25 IRQ5[GPIO22] (io)
part B pins: A17 PCIAD0 (io), A18 PCIAD3 (io), A20 PCIAD7 (io), A22 GPIO3[TS1O] (io), A23 PCIAD9 (io), A24 ~{PCIReq}3 (in), AA2 MemData23 (io), AA4 MemData22 (io), AA23 MemClkOut1 (out), AA25 PHYCol (in), AB1 MemData24 (io), AB2 MemData21 (io), AB3 GPIO9[TrcClk] (io), AB4 ~{UART0}_~{CT}S (in), AC1 UART1_Rx (in), AC2 UART1_Tx (out), AC3 ~{UART1}_~{CT}S/~{UART1}_~{DS}R (in), AC5 MemData19 (io), AC7 GPIO8[TS6] (io), AC8 MemData12 (io), AC9 GPIO5[TS3] (io), AC11 MemData3 (io), AC13 MemData0 (io), AC17 MemAddr12 (out), AC18 MemAddr9 (out), AC19 MemAddr6 (out), AC20 PHYRxD2 (in), AC21 MemAddr1 (out), AC26 MemClkOut0 (out), AD1 MemData20 (io), AD2 ~{UART1}_~{DT}R/~{UART1}_~{RT}S (out), AD4 MemData18 (io), AD5 MemData17 (io), AD7 MemData13 (io), AD8 MemData10 (io), AD9 MemData8 (io), AD10 MemData6 (io), AD11 MemData2 (io), AD15 ~{UART0}_~{R}I (in), AD16 ~{UART0}_~{RT}S (out), AD18 MemAddr11 (out), AD19 MemAddr8 (out), AD20 PHYRxD3 (in), AD21 MemAddr3 (out), AD26 EMCMDIO[PHYMDIO] (io), AE3 ~{UART0}_~{DS}R (in), AE4 MemData16 (io), AE5 MemData15 (io), AE6 MemData14 (io), AE8 GPIO6[TS4] (io), AE9 MemData9 (io), AE11 MemData5 (io), AE12 MemData1 (io), AE16 UART0_Rx (in), AE17 UARTSerClk (in), AE18 ~{UART0}_~{DC}D (in), AE19 MemAddr7 (out), AE20 MemAddr5 (out), AE21 MemAddr2 (out), AE22 MemAddr0 (out), AE23 PHYRxD0 (in), AF2 ~{UART0}_~{DT}R (out), AF3 UART0_Tx (out), AF5 GPIO7[TS5] (io), AF7 MemData11 (io), AF9 MemData7 (io), AF10 MemData4 (io), AF18 GPIO4[TS2O] (io), AF19 MemAddr10 (out), AF20 PHYRxClk (in), AF22 MemAddr4 (out), AF23 PHYRxD1 (in), B16 PCIAD1 (io), B18 PCIAD6 (io), B19 ~{PCIReq}2 (in), B20 PCIClk (in), B21 PCIAD8 (io), B22 PCIAD11 (io), B23 PCIAD12 (io), B24 ~{PCIRese}t (out), C17 PCIAD2 (io), C18 PCIAD5 (io), C19 ~{PCIReq0}[~{Gn}t] (in), C20 GPIO2[TS2E] (io), C21 ~{PCIReq}1 (in), C22 PCIAD13 (io), C23 ~{PCIIN}T[~{PerWE}] (out), C26 PCIAD14 (io), D17 PCIAD4 (io), D18 GPIO1[TS1E] (io), D19 PCIC0[~{BE0}] (io), D20 GPIO24 (io), D21 PCIAD10 (io), E25 PHYTxClk (in), E26 PCIParity (io), F23 ~{PCIGnt}2 (out), F24 PCIC1[~{BE1}] (io), F25 PCIAD15 (io), G23 ~{PCIReq}4 (in), G24 ~{PCISEr}r (io), G25 ~{PCIPEr}r (io), G26 ~{PCITRD}Y (io), H23 ~{PCISto}p (io), H24 EMCMDClk (out), H25 ~{PCIDevSe}l (io), H26 ~{PCIGnt}3 (out), J23 ~{PCIIRD}Y (io), J24 ~{PCIFram}e (io), J25 ~{PCIReq}5 (in), J26 EMCTxD0 (out), K23 EMCTxEn (out), K24 PCIC2[~{BE2}] (io), K25 EMCTxErr (out), K26 PCIAD16 (io), L23 PCIAD17 (io), L24 EMCTxD2 (out), L25 EMCTxD1 (out), M23 PCIAD19 (io), M24 ~{PCIGnt}5 (out), M25 PCIAD18 (io), M26 PCIAD21 (io), N23 ~{PCIGnt}4 (out), N25 PCIAD20 (io), N26 PCIAD22 (io), P23 PCIAD26 (io), P24 PCIAD23 (io), P25 EMCTxD3 (out), P26 PCIIDSel (in), R23 PCIAD25 (io), R24 PCIAD24 (io), R25 PCIAD27 (io), R26 PCIC3[~{BE3}] (io), T23 ~{PCIGnt}1 (out), T24 PCIAD28 (io), T25 PCIAD30 (io), U23 ~{PCIGnt}0[~{Re}q] (out), U24 PHYRxErr (in), U26 PCIAD29 (io), V3 MemData31 (io), V4 MemData29 (io), V24 PHYRxDV (in), V26 PCIAD31 (io), W1 MemData30 (io), W2 MemData27 (io), W3 MemData28 (io), W4 MemData26 (io), W23 PHYCrS (in), Y2 MemData25 (io)
part C pins: A1 GND (power), A2 GND (power), A6 GND (power), A11 GND (power), A16 GND (power), A19 GND (power), A21 GND (power), A26 GND (power), AA1 GND (power), AA5 OVDD (power), AA22 OVDD (power), AA26 GND (power), AB5 GND (power), AB6 OVDD (power), AB7 OVDD (power), AB8 OVDD (power), AB9 GND (power), AB10 VDD (power), AB11 VDD (power), AB12 VDD (power), AB13 GND (power), AB14 GND (power), AB15 VDD (power), AB16 VDD (power), AB17 VDD (power), AB18 GND (power), AB19 OVDD (power), AB20 OVDD (power), AB21 OVDD (power), AB22 GND (power), AC4 GND (power), AC23 GND (power), AD3 GND (power), AD14 OVDD (power), AD24 GND (power), AE1 GND (power), AE2 GND (power), AE10 OVDD (power), AE25 GND (power), AF1 GND (power), AF4 Reserved, AF6 GND (power), AF8 GND (power), AF11 GND (power), AF16 GND (power), AF21 GND (power), AF25 GND (power), AF26 GND (power), B2 GND (power), B17 OVDD (power), B25 GND (power), B26 GND (power), C3 GND (power), C13 OVDD (power), C24 GND (power), C25 Reserved, D4 GND (power), D23 GND (power), E5 GND (power), E6 OVDD (power), E7 OVDD (power), E8 OVDD (power), E9 GND (power), E10 VDD (power), E11 VDD (power), E12 VDD (power), E13 GND (power), E14 GND (power), E15 VDD (power), E16 VDD (power), E17 VDD (power), E18 GND (power), E19 OVDD (power), E20 OVDD (power), E21 OVDD (power), E23 Reserved, E24 Reserved, F1 GND (power), F5 OVDD (power), F22 OVDD (power), F26 GND (power), G5 OVDD (power), G22 OVDD (power), H1 GND (power), H5 OVDD (power), H22 OVDD (power), J5 GND (power), J22 GND (power), K2 OVDD (power), K5 VDD (power), K22 VDD (power), L1 GND (power), L5 VDD (power), L11 GND (power) "Thermal Balls", L12 GND (power) "Thermal Balls", L13 GND (power) "Thermal Balls", L14 GND (power) "Thermal Balls", L15 GND (power) "Thermal Balls", L16 GND (power) "Thermal Balls", L22 VDD (power), L26 GND (power), M5 VDD (power), M11 GND (power) "Thermal Balls", M12 GND (power) "Thermal Balls", M13 GND (power) "Thermal Balls", M14 GND (power) "Thermal Balls", M15 GND (power) "Thermal Balls", M16 GND (power) "Thermal Balls", M22 VDD (power), N5 GND (power), N11 GND (power) "Thermal Balls", N12 GND (power) "Thermal Balls", N13 GND (power) "Thermal Balls", N14 GND (power) "Thermal Balls", N15 GND (power) "Thermal Balls", N16 GND (power) "Thermal Balls", N22 GND (power), N24 OVDD (power), P3 OVDD (power), P5 GND (power), P11 GND (power) "Thermal Balls", P12 GND (power) "Thermal Balls", P13 GND (power) "Thermal Balls", P14 GND (power) "Thermal Balls", P15 GND (power) "Thermal Balls", P16 GND (power) "Thermal Balls", P22 GND (power), R5 VDD (power), R11 GND (power) "Thermal Balls", R12 GND (power) "Thermal Balls", R13 GND (power) "Thermal Balls", R14 GND (power) "Thermal Balls", R15 GND (power) "Thermal Balls", R16 GND (power) "Thermal Balls", R22 VDD (power), T1 GND (power), T5 VDD (power), T11 GND (power) "Thermal Balls", T12 GND (power) "Thermal Balls", T13 GND (power) "Thermal Balls", T14 GND (power) "Thermal Balls", T15 GND (power) "Thermal Balls", T16 GND (power) "Thermal Balls", T22 VDD (power), T26 GND (power), U5 VDD (power), U22 VDD (power), U25 OVDD (power), V5 GND (power), V22 GND (power), W5 OVDD (power), W22 OVDD (power), W26 GND (power), Y5 OVDD (power), Y22 OVDD (power), Y23 Reserved, Y26 Reserved

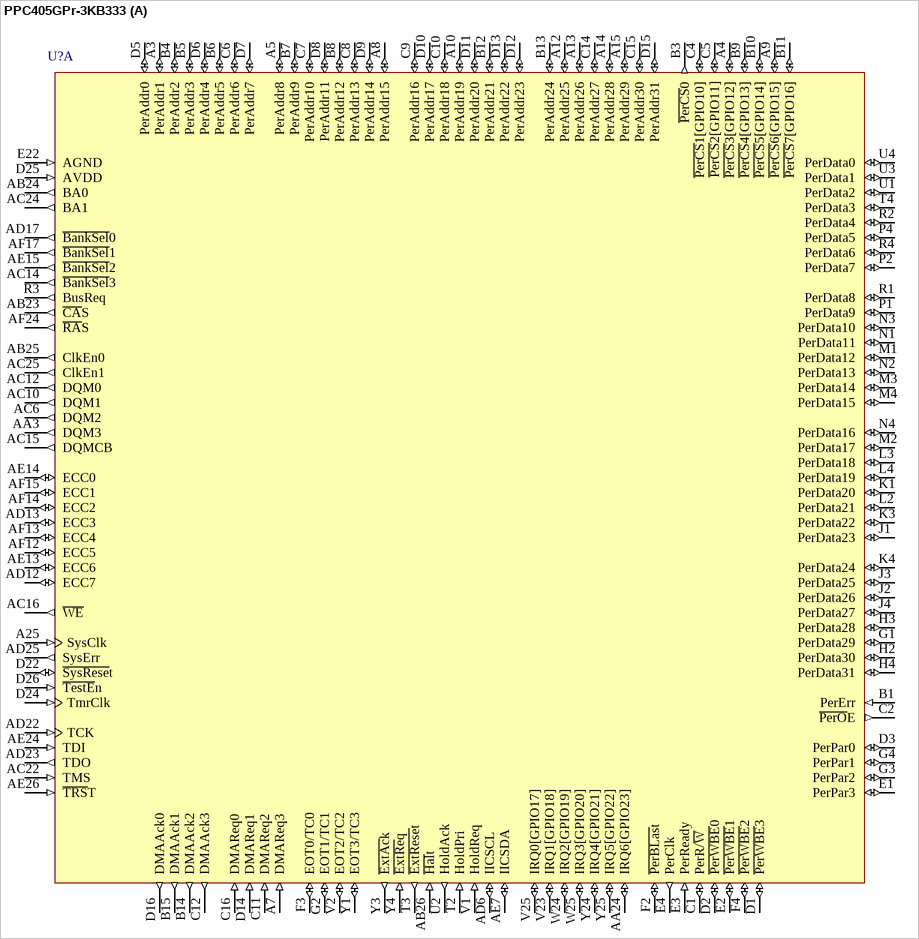
[diagram p113: symbol PPC405GPr-3KB333]

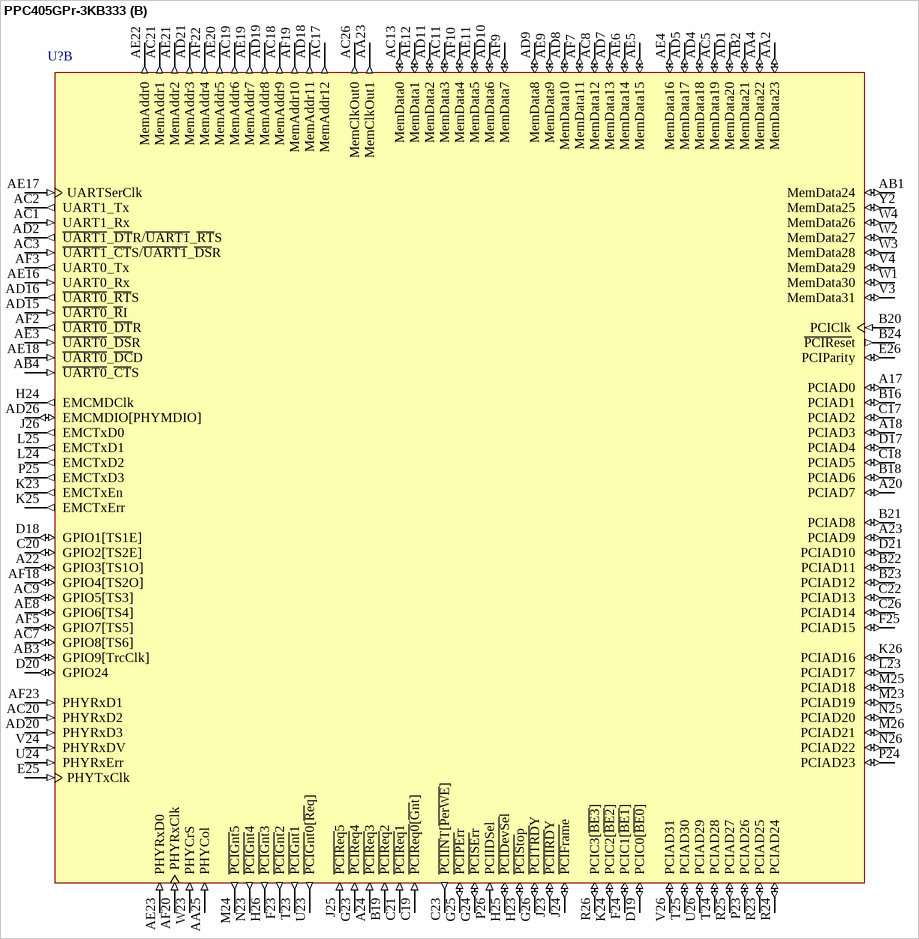
[diagram p114: symbol PPC405GPr-3KB333]

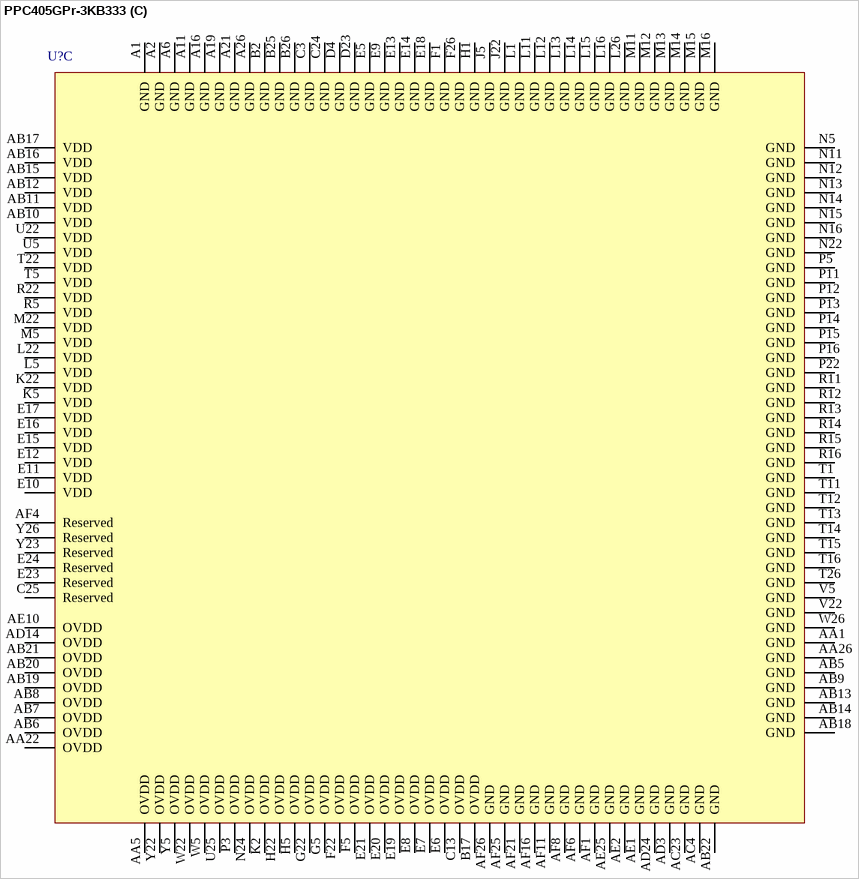
[diagram p115: symbol PPC405GPr-3KB333]

## PPC405GPr-3KB333
designator U?
PowerPC 405GPr Embedded Processor, 333MHz, 27mm, 456 Ball E-PBGA, Pb-Free; Published: 6-Oct-2005; LatestRevisionDate: 13-Apr-2006; LatestRevisionNote: IPC-7351 Footprint Added.; DatasheetVersion: rev 2.02, Aug-2005; PackageVersion: Aug-2005; PackageReference: E-PBGA456_60; Publisher: Altium Limited; PackageDescription: 456-Ball Enhanced Plastic Ball Grid Array; ComponentLink1Description: Manufacturer Link; ComponentLink1URL: http://www.amcc.com/; ComponentLink2Description: Datasheet; ComponentLink2URL: https://www.amcc.com/MyAMCC/retrieveDocument/PowerPC/405GP_GPR/PPC405GPR_DS2005_v2_02.pdf
footprint E-PBGA456_60 (BGA, 456-Leads, Body 27x27mm, Pitch 1mm)
3D model PPC405GPr-E-PBGA456 (456-Ball Enhanced Plastic Ball Grid Array)
part A pins: A3 PerAddr1 (io), A4 ~{PerCS}3[GPIO12] (io), A5 PerAddr8 (io), A7 DMAReq3 (in), A8 PerAddr15 (io), A9 ~{PerCS}6[GPIO15] (io), A10 PerAddr19 (io), A12 PerAddr25 (io), A13 PerAddr26 (io), A14 PerAddr28 (io), A15 PerAddr29 (io), A25 SysClk (in), AA3 DQM3 (out), AA24 IRQ6[GPIO23] (io), AB23 ~{CA}S (out), AB24 BA0 (out), AB25 ClkEn0 (out), AB26 ~{Hal}t (in), AC6 DQM2 (out), AC10 DQM1 (out), AC12 DQM0 (out), AC14 ~{BankSel}3 (out), AC15 DQMCB (out), AC16 ~{WE} (out), AC22 TMS (in), AC24 BA1 (out), AC25 ClkEn1 (out), AD6 IICSCL (io), AD12 ECC7 (io), AD13 ECC3 (io), AD17 ~{BankSel}0 (out), AD22 TCK (in), AD23 TDO (out), AD25 SysErr (out), AE7 IICSDA (io), AE13 ECC6 (io), AE14 ECC0 (io), AE15 ~{BankSel}2 (out), AE24 TDI (in), AE26 ~{TRS}T (in), AF12 ECC5 (io), AF13 ECC4 (io), AF14 ECC2 (io), AF15 ECC1 (io), AF17 ~{BankSel}1 (out), AF24 ~{RA}S (out), B1 PerErr (in), B3 ~{PerCS}0 (out), B4 PerAddr2 (io), B5 PerAddr3 (io), B6 PerAddr5 (io), B7 PerAddr9 (io), B8 PerAddr12 (io), B9 ~{PerCS}4[GPIO13] (io), B10 ~{PerCS}5[GPIO14] (io), B11 ~{PerCS}7[GPIO16] (io), B12 PerAddr21 (io), B13 PerAddr24 (io), B14 DMAAck2 (out), B15 DMAAck1 (out), C1 PerR/~{W} (io), C2 ~{PerO}E (out), C4 ~{PerCS}1[GPIO10] (io), C5 ~{PerCS}2[GPIO11] (io), C6 PerAddr6 (io), C7 PerAddr10 (io), C8 PerAddr13 (io), C9 PerAddr16 (io), C10 PerAddr18 (io), C11 DMAReq2 (in), C12 DMAAck3 (out), C14 PerAddr27 (io), C15 PerAddr30 (io), C16 DMAReq0 (in), D1 ~{PerWBE}3 (io), D2 ~{PerWBE}0 (io), D3 PerPar0 (io), D5 PerAddr0 (io), D6 PerAddr4 (io), D7 PerAddr7 (io), D8 PerAddr11 (io), D9 PerAddr14 (io), D10 PerAddr17 (io), D11 PerAddr20 (io), D12 PerAddr23 (io), D13 PerAddr22 (io), D14 DMAReq1 (in), D15 PerAddr31 (io), D16 DMAAck0 (out), D22 ~{SysRese}t (io), D24 TmrClk (in), D25 AVDD (in), D26 ~{TestE}n (in), E1 PerPar3 (io), E2 ~{PerWBE}1 (io), E3 PerReady (in), E4 PerClk (out), E22 AGND (in), F2 ~{PerBLas}t (io), F3 EOT0/TC0 (io), F4 ~{PerWBE}2 (io), G1 PerData29 (io), G2 EOT1/TC1 (io), G3 PerPar2 (io), G4 PerPar1 (io), H2 PerData30 (io), H3 PerData28 (io), H4 PerData31 (io), J1 PerData23 (io), J2 PerData26 (io), J3 PerData25 (io), J4 PerData27 (io), K1 PerData20 (io), K3 PerData22 (io), K4 PerData24 (io), L2 PerData21 (io), L3 PerData18 (io), L4 PerData19 (io), M1 PerData12 (io), M2 PerData17 (io), M3 PerData14 (io), M4 PerData15 (io), N1 PerData11 (io), N2 PerData13 (io), N3 PerData10 (io), N4 PerData16 (io), P1 PerData9 (io), P2 PerData7 (io), P4 PerData5 (io), R1 PerData8 (io), R2 PerData4 (io), R3 BusReq (out), R4 PerData6 (io), T2 HoldPri (in), T3 ~{ExtRese}t (out), T4 PerData3 (io), U1 PerData2 (io), U2 HoldAck (out), U3 PerData1 (io), U4 PerData0 (io), V1 HoldReq (in), V2 EOT2/TC2 (io), V23 IRQ1[GPIO18] (io), V25 IRQ0[GPIO17] (io), W24 IRQ2[GPIO19] (io), W25 IRQ3[GPIO20] (io), Y1 EOT3/TC3 (io), Y3 ~{ExtAc}k (out), Y4 ~{ExtRe}q (in), Y24 IRQ4[GPIO21] (io), Y25 IRQ5[GPIO22] (io)
part B pins: A17 PCIAD0 (io), A18 PCIAD3 (io), A20 PCIAD7 (io), A22 GPIO3[TS1O] (io), A23 PCIAD9 (io), A24 ~{PCIReq}3 (in), AA2 MemData23 (io), AA4 MemData22 (io), AA23 MemClkOut1 (out), AA25 PHYCol (in), AB1 MemData24 (io), AB2 MemData21 (io), AB3 GPIO9[TrcClk] (io), AB4 ~{UART0}_~{CT}S (in), AC1 UART1_Rx (in), AC2 UART1_Tx (out), AC3 ~{UART1}_~{CT}S/~{UART1}_~{DS}R (in), AC5 MemData19 (io), AC7 GPIO8[TS6] (io), AC8 MemData12 (io), AC9 GPIO5[TS3] (io), AC11 MemData3 (io), AC13 MemData0 (io), AC17 MemAddr12 (out), AC18 MemAddr9 (out), AC19 MemAddr6 (out), AC20 PHYRxD2 (in), AC21 MemAddr1 (out), AC26 MemClkOut0 (out), AD1 MemData20 (io), AD2 ~{UART1}_~{DT}R/~{UART1}_~{RT}S (out), AD4 MemData18 (io), AD5 MemData17 (io), AD7 MemData13 (io), AD8 MemData10 (io), AD9 MemData8 (io), AD10 MemData6 (io), AD11 MemData2 (io), AD15 ~{UART0}_~{R}I (in), AD16 ~{UART0}_~{RT}S (out), AD18 MemAddr11 (out), AD19 MemAddr8 (out), AD20 PHYRxD3 (in), AD21 MemAddr3 (out), AD26 EMCMDIO[PHYMDIO] (io), AE3 ~{UART0}_~{DS}R (in), AE4 MemData16 (io), AE5 MemData15 (io), AE6 MemData14 (io), AE8 GPIO6[TS4] (io), AE9 MemData9 (io), AE11 MemData5 (io), AE12 MemData1 (io), AE16 UART0_Rx (in), AE17 UARTSerClk (in), AE18 ~{UART0}_~{DC}D (in), AE19 MemAddr7 (out), AE20 MemAddr5 (out), AE21 MemAddr2 (out), AE22 MemAddr0 (out), AE23 PHYRxD0 (in), AF2 ~{UART0}_~{DT}R (out), AF3 UART0_Tx (out), AF5 GPIO7[TS5] (io), AF7 MemData11 (io), AF9 MemData7 (io), AF10 MemData4 (io), AF18 GPIO4[TS2O] (io), AF19 MemAddr10 (out), AF20 PHYRxClk (in), AF22 MemAddr4 (out), AF23 PHYRxD1 (in), B16 PCIAD1 (io), B18 PCIAD6 (io), B19 ~{PCIReq}2 (in), B20 PCIClk (in), B21 PCIAD8 (io), B22 PCIAD11 (io), B23 PCIAD12 (io), B24 ~{PCIRese}t (out), C17 PCIAD2 (io), C18 PCIAD5 (io), C19 ~{PCIReq0}[~{Gn}t] (in), C20 GPIO2[TS2E] (io), C21 ~{PCIReq}1 (in), C22 PCIAD13 (io), C23 ~{PCIIN}T[~{PerWE}] (out), C26 PCIAD14 (io), D17 PCIAD4 (io), D18 GPIO1[TS1E] (io), D19 PCIC0[~{BE0}] (io), D20 GPIO24 (io), D21 PCIAD10 (io), E25 PHYTxClk (in), E26 PCIParity (io), F23 ~{PCIGnt}2 (out), F24 PCIC1[~{BE1}] (io), F25 PCIAD15 (io), G23 ~{PCIReq}4 (in), G24 ~{PCISEr}r (io), G25 ~{PCIPEr}r (io), G26 ~{PCITRD}Y (io), H23 ~{PCISto}p (io), H24 EMCMDClk (out), H25 ~{PCIDevSe}l (io), H26 ~{PCIGnt}3 (out), J23 ~{PCIIRD}Y (io), J24 ~{PCIFram}e (io), J25 ~{PCIReq}5 (in), J26 EMCTxD0 (out), K23 EMCTxEn (out), K24 PCIC2[~{BE2}] (io), K25 EMCTxErr (out), K26 PCIAD16 (io), L23 PCIAD17 (io), L24 EMCTxD2 (out), L25 EMCTxD1 (out), M23 PCIAD19 (io), M24 ~{PCIGnt}5 (out), M25 PCIAD18 (io), M26 PCIAD21 (io), N23 ~{PCIGnt}4 (out), N25 PCIAD20 (io), N26 PCIAD22 (io), P23 PCIAD26 (io), P24 PCIAD23 (io), P25 EMCTxD3 (out), P26 PCIIDSel (in), R23 PCIAD25 (io), R24 PCIAD24 (io), R25 PCIAD27 (io), R26 PCIC3[~{BE3}] (io), T23 ~{PCIGnt}1 (out), T24 PCIAD28 (io), T25 PCIAD30 (io), U23 ~{PCIGnt}0[~{Re}q] (out), U24 PHYRxErr (in), U26 PCIAD29 (io), V3 MemData31 (io), V4 MemData29 (io), V24 PHYRxDV (in), V26 PCIAD31 (io), W1 MemData30 (io), W2 MemData27 (io), W3 MemData28 (io), W4 MemData26 (io), W23 PHYCrS (in), Y2 MemData25 (io)
part C pins: A1 GND (power), A2 GND (power), A6 GND (power), A11 GND (power), A16 GND (power), A19 GND (power), A21 GND (power), A26 GND (power), AA1 GND (power), AA5 OVDD (power), AA22 OVDD (power), AA26 GND (power), AB5 GND (power), AB6 OVDD (power), AB7 OVDD (power), AB8 OVDD (power), AB9 GND (power), AB10 VDD (power), AB11 VDD (power), AB12 VDD (power), AB13 GND (power), AB14 GND (power), AB15 VDD (power), AB16 VDD (power), AB17 VDD (power), AB18 GND (power), AB19 OVDD (power), AB20 OVDD (power), AB21 OVDD (power), AB22 GND (power), AC4 GND (power), AC23 GND (power), AD3 GND (power), AD14 OVDD (power), AD24 GND (power), AE1 GND (power), AE2 GND (power), AE10 OVDD (power), AE25 GND (power), AF1 GND (power), AF4 Reserved, AF6 GND (power), AF8 GND (power), AF11 GND (power), AF16 GND (power), AF21 GND (power), AF25 GND (power), AF26 GND (power), B2 GND (power), B17 OVDD (power), B25 GND (power), B26 GND (power), C3 GND (power), C13 OVDD (power), C24 GND (power), C25 Reserved, D4 GND (power), D23 GND (power), E5 GND (power), E6 OVDD (power), E7 OVDD (power), E8 OVDD (power), E9 GND (power), E10 VDD (power), E11 VDD (power), E12 VDD (power), E13 GND (power), E14 GND (power), E15 VDD (power), E16 VDD (power), E17 VDD (power), E18 GND (power), E19 OVDD (power), E20 OVDD (power), E21 OVDD (power), E23 Reserved, E24 Reserved, F1 GND (power), F5 OVDD (power), F22 OVDD (power), F26 GND (power), G5 OVDD (power), G22 OVDD (power), H1 GND (power), H5 OVDD (power), H22 OVDD (power), J5 GND (power), J22 GND (power), K2 OVDD (power), K5 VDD (power), K22 VDD (power), L1 GND (power), L5 VDD (power), L11 GND (power) "Thermal Balls", L12 GND (power) "Thermal Balls", L13 GND (power) "Thermal Balls", L14 GND (power) "Thermal Balls", L15 GND (power) "Thermal Balls", L16 GND (power) "Thermal Balls", L22 VDD (power), L26 GND (power), M5 VDD (power), M11 GND (power) "Thermal Balls", M12 GND (power) "Thermal Balls", M13 GND (power) "Thermal Balls", M14 GND (power) "Thermal Balls", M15 GND (power) "Thermal Balls", M16 GND (power) "Thermal Balls", M22 VDD (power), N5 GND (power), N11 GND (power) "Thermal Balls", N12 GND (power) "Thermal Balls", N13 GND (power) "Thermal Balls", N14 GND (power) "Thermal Balls", N15 GND (power) "Thermal Balls", N16 GND (power) "Thermal Balls", N22 GND (power), N24 OVDD (power), P3 OVDD (power), P5 GND (power), P11 GND (power) "Thermal Balls", P12 GND (power) "Thermal Balls", P13 GND (power) "Thermal Balls", P14 GND (power) "Thermal Balls", P15 GND (power) "Thermal Balls", P16 GND (power) "Thermal Balls", P22 GND (power), R5 VDD (power), R11 GND (power) "Thermal Balls", R12 GND (power) "Thermal Balls", R13 GND (power) "Thermal Balls", R14 GND (power) "Thermal Balls", R15 GND (power) "Thermal Balls", R16 GND (power) "Thermal Balls", R22 VDD (power), T1 GND (power), T5 VDD (power), T11 GND (power) "Thermal Balls", T12 GND (power) "Thermal Balls", T13 GND (power) "Thermal Balls", T14 GND (power) "Thermal Balls", T15 GND (power) "Thermal Balls", T16 GND (power) "Thermal Balls", T22 VDD (power), T26 GND (power), U5 VDD (power), U22 VDD (power), U25 OVDD (power), V5 GND (power), V22 GND (power), W5 OVDD (power), W22 OVDD (power), W26 GND (power), Y5 OVDD (power), Y22 OVDD (power), Y23 Reserved, Y26 Reserved

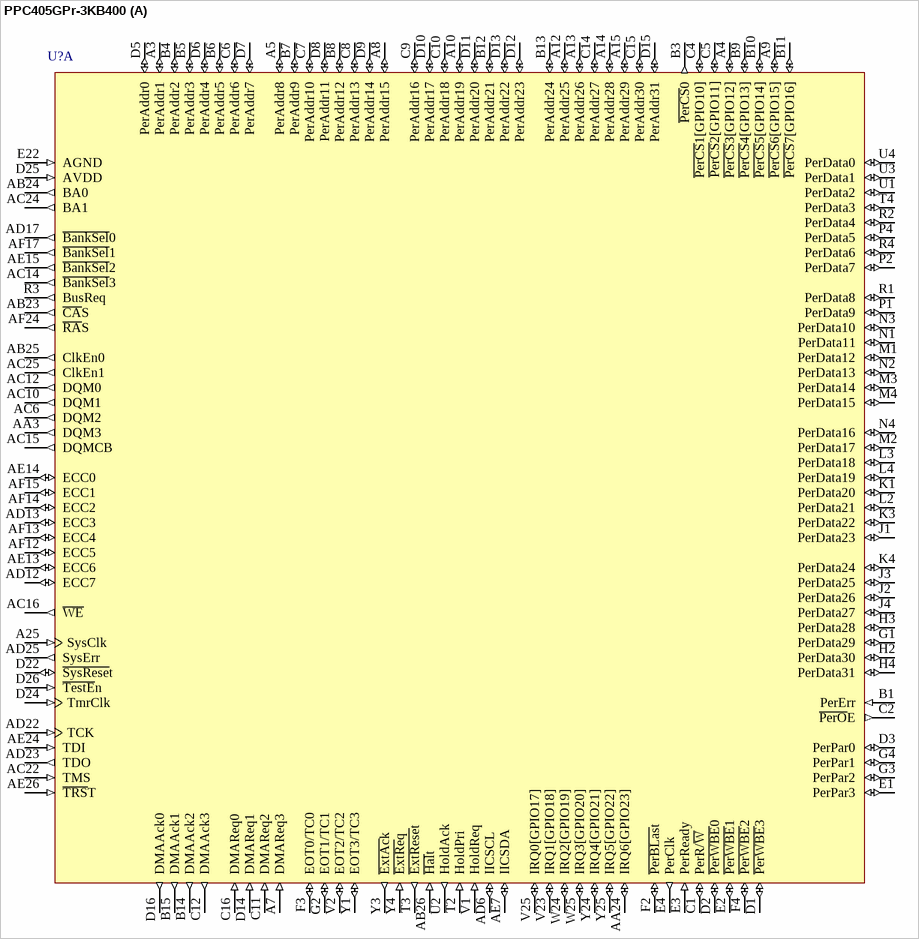
[diagram p116: symbol PPC405GPr-3KB400]

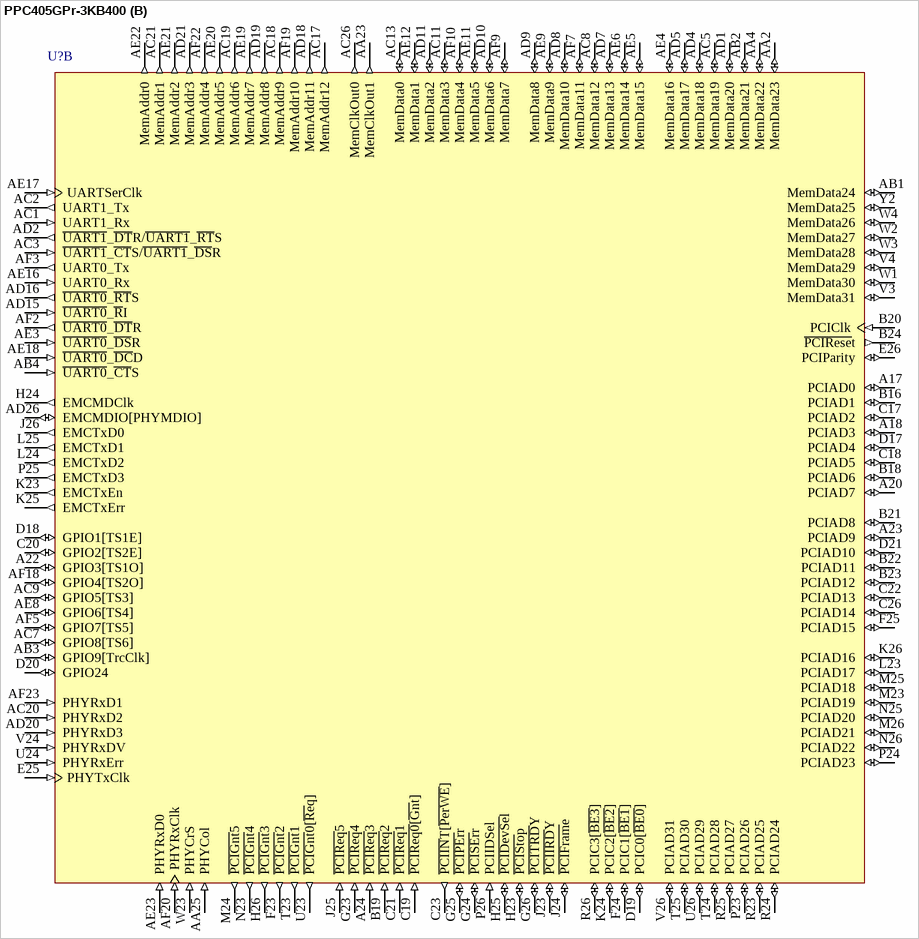
[diagram p117: symbol PPC405GPr-3KB400]

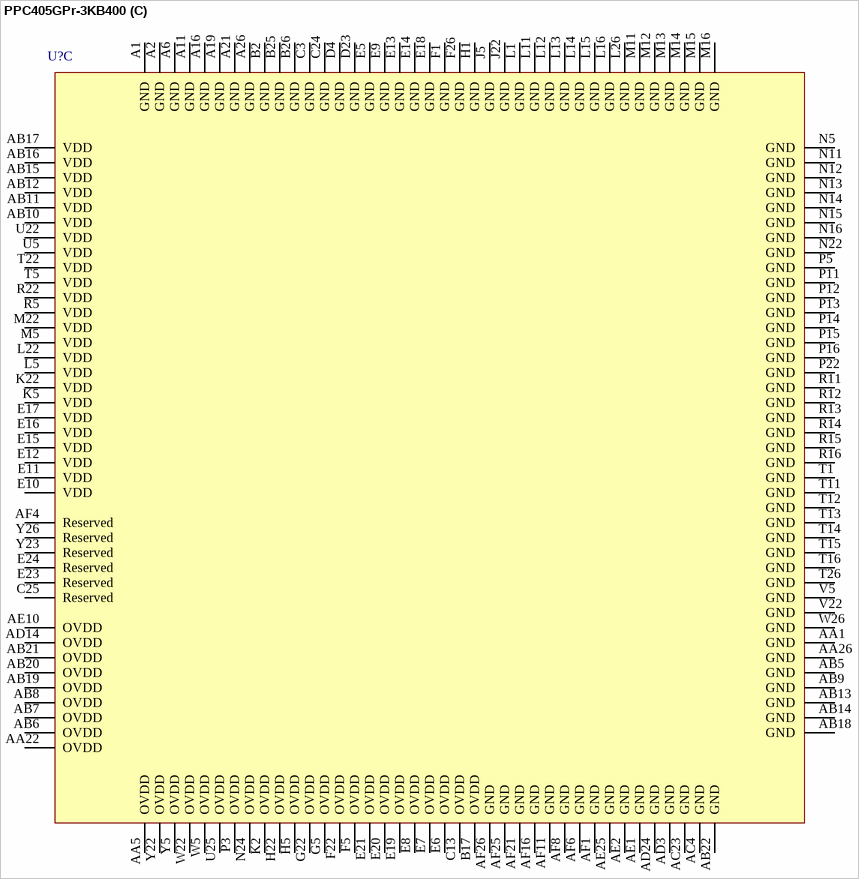
[diagram p118: symbol PPC405GPr-3KB400]